# Altium footprint library ZQstencil.PcbLib: 9 footprints
Each footprint in its own frame and in the unit in brackets; x right, y up, seen from the top. Pads: shape width x height; smd on the part's side, far side on the other; paste and mask are expansions set on the pad; w line width, h text height; cw(c..) or ccw(c..) is an arc to the next point about the centre after c.
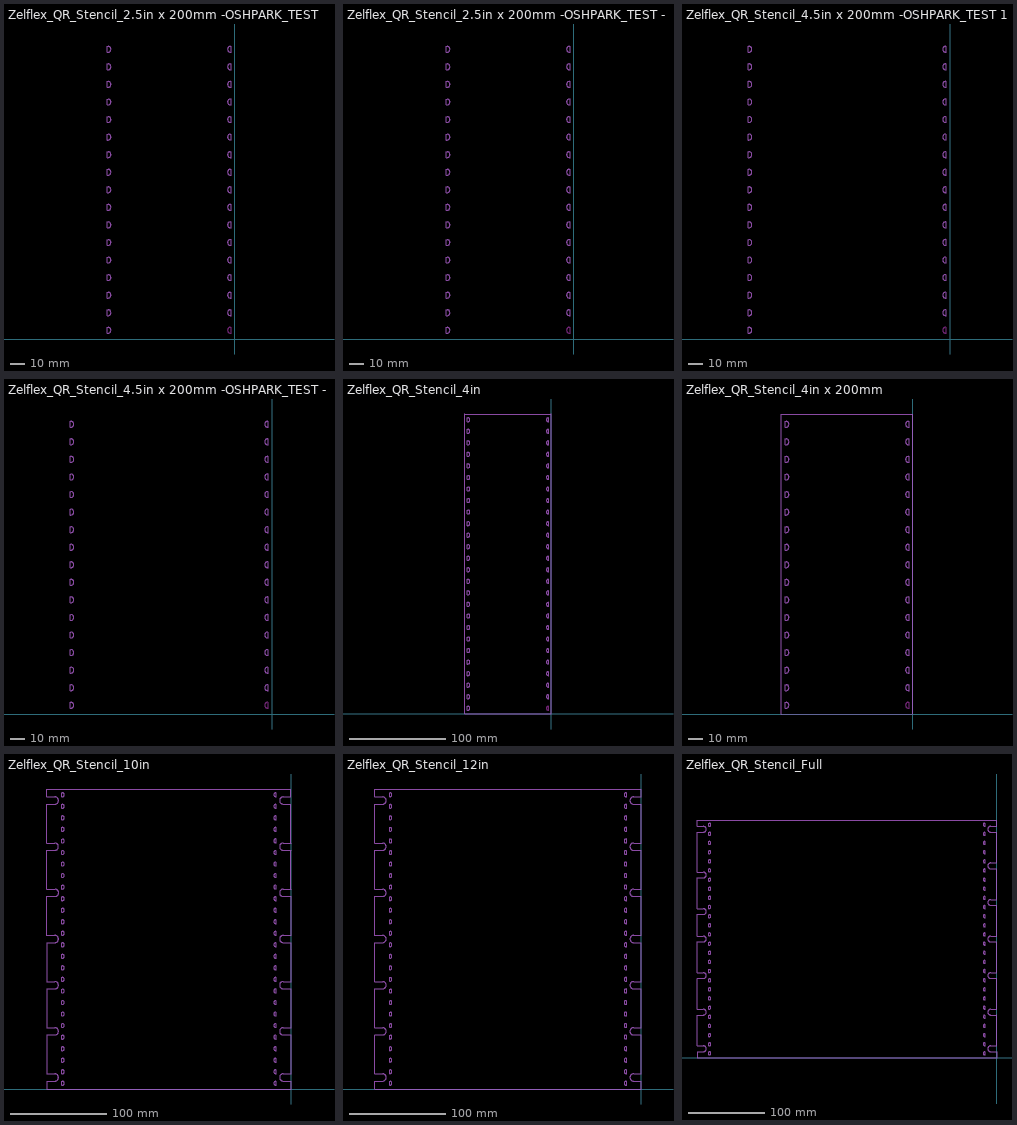
[diagram p0: the footprints below, top view; thin cyan lines are the x and y axes]

## Zelflex_QR_Stencil_2.5in x 200mm -OSHPARK_TEST [mm] "This is a stencil frame in IDLAB.  This has been tested and fits just fine -JDC"
Top Paste:
  drawing of 38 lines, arcs and shapes, not listed
Bottom Paste:
  drawing of 38 lines, arcs and shapes, not listed
Keep-Out Layer:
  lines w0.127: -3.028,4.001 cw(c-3.025,6.002) -3.028,8.002 -2.53,8.002 -2.53,4.001 -3.028,4.001
Mechanical 12:
  lines w0.127: -87.129,3.981 -87.129,7.982 -86.628,7.982 cw(c-86.631,5.981) -86.628,3.981 -87.129,3.981 ; -87.129,15.98 -87.129,19.981 -86.628,19.981 cw(c-86.631,17.98) -86.628,15.98 -87.129,15.98 ; -87.129,27.982 -87.129,31.979 -86.628,31.979 cw(c-86.628,29.981) -86.628,27.982 -87.129,27.982 ; -87.129,39.98 -87.129,43.981 -86.628,43.981 cw(c-86.631,41.981) -86.628,39.98 -87.129,39.98 ; -87.129,51.979 -87.129,55.98 -86.628,55.98 cw(c-86.631,53.98) -86.628,51.979 -87.129,51.979 ; -87.129,63.981 -87.129,67.981 -86.628,67.981 cw(c-86.631,65.981) -86.628,63.981 -87.129,63.981 ; -87.129,75.98 -87.129,79.98 -86.628,79.98 cw(c-86.631,77.98) -86.628,75.98 -87.129,75.98 ; -87.129,87.981 -87.129,91.979 -86.628,91.979 cw(c-86.628,89.98) -86.628,87.981 -87.129,87.981 ; -87.129,99.98 -87.129,103.981 -86.628,103.981 cw(c-86.631,101.981) -86.628,99.98 -87.129,99.98 ; -87.129,111.979 -87.129,115.98 -86.628,115.98 cw(c-86.631,113.98) -86.628,111.979 -87.129,111.979 ; -87.129,123.981 -87.129,127.981 -86.628,127.981 cw(c-86.631,125.981) -86.628,123.981 -87.129,123.981 ; -87.129,135.98 -87.129,139.98 -86.628,139.98 cw(c-86.631,137.98) -86.628,135.98 -87.129,135.98 ; -87.129,147.981 -87.129,151.982 -86.628,151.982 cw(c-86.631,149.982) -86.628,147.981 -87.129,147.981 ; -87.129,159.98 -87.129,163.981 -86.628,163.981 cw(c-86.631,161.981) -86.628,159.98 -87.129,159.98 ; -87.129,171.982 -87.129,175.98 -86.628,175.98 cw(c-86.628,173.981) -86.628,171.982 -87.129,171.982 ; -87.129,183.981 -87.129,187.981 -86.628,187.981 cw(c-86.631,185.981) -86.628,183.981 -87.129,183.981 ; -87.129,195.98 -87.129,199.98 -86.628,199.98 cw(c-86.631,197.98) -86.628,195.98 -87.129,195.98 ; -3.028,16 cw(c-3.025,18.001) -3.028,20.001 -2.53,20.001 -2.53,16 -3.028,16 ; -3.028,28.002 cw(c-3.028,30.001) -3.028,32 -2.53,32 -2.53,28.002 -3.028,28.002 ; -3.028,40.001 cw(c-3.025,42.001) -3.028,44.001 -2.53,44.001 -2.53,40.001 -3.028,40.001 ; -3.028,52 cw(c-3.025,54) -3.028,56 -2.53,56 -2.53,52 -3.028,52 ; -3.028,64.001 cw(c-3.025,66.002) -3.028,68.002 -2.53,68.002 -2.53,64.001 -3.028,64.001 ; -3.028,76 cw(c-3.025,78.001) -3.028,80.001 -2.53,80.001 -2.53,76 -3.028,76 ; -3.028,88.002 cw(c-3.028,90.001) -3.028,92 -2.53,92 -2.53,88.002 -3.028,88.002 ; -3.028,100.001 cw(c-3.025,102.001) -3.028,104.001 -2.53,104.001 -2.53,100.001 -3.028,100.001 ; -3.028,112 cw(c-3.025,114) -3.028,116 -2.53,116 -2.53,112 -3.028,112 ; -3.028,124.001 cw(c-3.025,126.001) -3.028,128.002 -2.53,128.002 -2.53,124.001 -3.028,124.001 ; -3.028,136 cw(c-3.025,138) -3.028,140.001 -2.53,140.001 -2.53,136 -3.028,136 ; -3.028,148.002 cw(c-3.025,150.002) -3.028,152.002 -2.53,152.002 -2.53,148.002 -3.028,148.002 ; -3.028,160.001 cw(c-3.025,162.001) -3.028,164.001 -2.53,164.001 -2.53,160.001 -3.028,160.001 ; -3.028,172.002 cw(c-3.028,174.001) -3.028,176 -2.53,176 -2.53,172.002 -3.028,172.002 ; -3.028,184.001 cw(c-3.025,186.001) -3.028,188.002 -2.53,188.002 -2.53,184.001 -3.028,184.001 ; -3.028,196 cw(c-3.025,198) -3.028,200.001 -2.53,200.001 -2.53,196 -3.028,196
3D body: height 15, standoff -3.51, extent -102.778,-0.017 -79.128,311.94
3D body: height 15, standoff -3.51, extent -10.649,0 13,311.957

## Zelflex_QR_Stencil_2.5in x 200mm -OSHPARK_TEST - duplicate [mm] "This is a stencil frame in IDLAB.  This has been tested and fits just fine -JDC"
Top Paste:
  drawing of 38 lines, arcs and shapes, not listed
Bottom Paste:
  drawing of 38 lines, arcs and shapes, not listed
Keep-Out Layer:
  lines w0.127: -3.028,4.001 cw(c-3.025,6.002) -3.028,8.002 -2.53,8.002 -2.53,4.001 -3.028,4.001
Mechanical 12:
  lines w0.127: -87.129,3.981 -87.129,7.982 -86.628,7.982 cw(c-86.631,5.981) -86.628,3.981 -87.129,3.981 ; -87.129,15.98 -87.129,19.981 -86.628,19.981 cw(c-86.631,17.98) -86.628,15.98 -87.129,15.98 ; -87.129,27.982 -87.129,31.979 -86.628,31.979 cw(c-86.628,29.981) -86.628,27.982 -87.129,27.982 ; -87.129,39.98 -87.129,43.981 -86.628,43.981 cw(c-86.631,41.981) -86.628,39.98 -87.129,39.98 ; -87.129,51.979 -87.129,55.98 -86.628,55.98 cw(c-86.631,53.98) -86.628,51.979 -87.129,51.979 ; -87.129,63.981 -87.129,67.981 -86.628,67.981 cw(c-86.631,65.981) -86.628,63.981 -87.129,63.981 ; -87.129,75.98 -87.129,79.98 -86.628,79.98 cw(c-86.631,77.98) -86.628,75.98 -87.129,75.98 ; -87.129,87.981 -87.129,91.979 -86.628,91.979 cw(c-86.628,89.98) -86.628,87.981 -87.129,87.981 ; -87.129,99.98 -87.129,103.981 -86.628,103.981 cw(c-86.631,101.981) -86.628,99.98 -87.129,99.98 ; -87.129,111.979 -87.129,115.98 -86.628,115.98 cw(c-86.631,113.98) -86.628,111.979 -87.129,111.979 ; -87.129,123.981 -87.129,127.981 -86.628,127.981 cw(c-86.631,125.981) -86.628,123.981 -87.129,123.981 ; -87.129,135.98 -87.129,139.98 -86.628,139.98 cw(c-86.631,137.98) -86.628,135.98 -87.129,135.98 ; -87.129,147.981 -87.129,151.982 -86.628,151.982 cw(c-86.631,149.982) -86.628,147.981 -87.129,147.981 ; -87.129,159.98 -87.129,163.981 -86.628,163.981 cw(c-86.631,161.981) -86.628,159.98 -87.129,159.98 ; -87.129,171.982 -87.129,175.98 -86.628,175.98 cw(c-86.628,173.981) -86.628,171.982 -87.129,171.982 ; -87.129,183.981 -87.129,187.981 -86.628,187.981 cw(c-86.631,185.981) -86.628,183.981 -87.129,183.981 ; -87.129,195.98 -87.129,199.98 -86.628,199.98 cw(c-86.631,197.98) -86.628,195.98 -87.129,195.98 ; -3.028,16 cw(c-3.025,18.001) -3.028,20.001 -2.53,20.001 -2.53,16 -3.028,16 ; -3.028,28.002 cw(c-3.028,30.001) -3.028,32 -2.53,32 -2.53,28.002 -3.028,28.002 ; -3.028,40.001 cw(c-3.025,42.001) -3.028,44.001 -2.53,44.001 -2.53,40.001 -3.028,40.001 ; -3.028,52 cw(c-3.025,54) -3.028,56 -2.53,56 -2.53,52 -3.028,52 ; -3.028,64.001 cw(c-3.025,66.002) -3.028,68.002 -2.53,68.002 -2.53,64.001 -3.028,64.001 ; -3.028,76 cw(c-3.025,78.001) -3.028,80.001 -2.53,80.001 -2.53,76 -3.028,76 ; -3.028,88.002 cw(c-3.028,90.001) -3.028,92 -2.53,92 -2.53,88.002 -3.028,88.002 ; -3.028,100.001 cw(c-3.025,102.001) -3.028,104.001 -2.53,104.001 -2.53,100.001 -3.028,100.001 ; -3.028,112 cw(c-3.025,114) -3.028,116 -2.53,116 -2.53,112 -3.028,112 ; -3.028,124.001 cw(c-3.025,126.001) -3.028,128.002 -2.53,128.002 -2.53,124.001 -3.028,124.001 ; -3.028,136 cw(c-3.025,138) -3.028,140.001 -2.53,140.001 -2.53,136 -3.028,136 ; -3.028,148.002 cw(c-3.025,150.002) -3.028,152.002 -2.53,152.002 -2.53,148.002 -3.028,148.002 ; -3.028,160.001 cw(c-3.025,162.001) -3.028,164.001 -2.53,164.001 -2.53,160.001 -3.028,160.001 ; -3.028,172.002 cw(c-3.028,174.001) -3.028,176 -2.53,176 -2.53,172.002 -3.028,172.002 ; -3.028,184.001 cw(c-3.025,186.001) -3.028,188.002 -2.53,188.002 -2.53,184.001 -3.028,184.001 ; -3.028,196 cw(c-3.025,198) -3.028,200.001 -2.53,200.001 -2.53,196 -3.028,196
3D body: height 15, standoff -3.51, extent -102.778,-0.017 -79.128,311.94
3D body: height 15, standoff -3.51, extent -10.649,0 13,311.957

## Zelflex_QR_Stencil_4.5in x 200mm -OSHPARK_TEST 1 [mm] "This is a stencil frame in IDLAB.  This has been tested and fits just fine -JDC"
Top Paste:
  drawing of 68 lines, arcs and shapes, not listed
Bottom Paste:
  drawing of 68 lines, arcs and shapes, not listed
Keep-Out Layer:
  lines w0.127: -3.028,4.001 cw(c-3.025,6.002) -3.028,8.002 -2.53,8.002 -2.53,4.001 -3.028,4.001
Mechanical 12:
  lines w0.127: -137.929,3.981 -137.929,7.982 -137.428,7.982 cw(c-137.431,5.981) -137.428,3.981 -137.929,3.981 ; -137.929,15.98 -137.929,19.981 -137.428,19.981 cw(c-137.431,17.98) -137.428,15.98 -137.929,15.98 ; -137.929,27.982 -137.929,31.979 -137.428,31.979 cw(c-137.428,29.981) -137.428,27.982 -137.929,27.982 ; -137.929,39.98 -137.929,43.981 -137.428,43.981 cw(c-137.431,41.981) -137.428,39.98 -137.929,39.98 ; -137.929,51.979 -137.929,55.98 -137.428,55.98 cw(c-137.431,53.98) -137.428,51.979 -137.929,51.979 ; -137.929,63.981 -137.929,67.981 -137.428,67.981 cw(c-137.431,65.981) -137.428,63.981 -137.929,63.981 ; -137.929,75.98 -137.929,79.98 -137.428,79.98 cw(c-137.431,77.98) -137.428,75.98 -137.929,75.98 ; -137.929,87.981 -137.929,91.979 -137.428,91.979 cw(c-137.428,89.98) -137.428,87.981 -137.929,87.981 ; -137.929,99.98 -137.929,103.981 -137.428,103.981 cw(c-137.431,101.981) -137.428,99.98 -137.929,99.98 ; -137.929,111.979 -137.929,115.98 -137.428,115.98 cw(c-137.431,113.98) -137.428,111.979 -137.929,111.979 ; -137.929,123.981 -137.929,127.981 -137.428,127.981 cw(c-137.431,125.981) -137.428,123.981 -137.929,123.981 ; -137.929,135.98 -137.929,139.98 -137.428,139.98 cw(c-137.431,137.98) -137.428,135.98 -137.929,135.98 ; -137.929,147.981 -137.929,151.982 -137.428,151.982 cw(c-137.431,149.982) -137.428,147.981 -137.929,147.981 ; -137.929,159.98 -137.929,163.981 -137.428,163.981 cw(c-137.431,161.981) -137.428,159.98 -137.929,159.98 ; -137.929,171.982 -137.929,175.98 -137.428,175.98 cw(c-137.428,173.981) -137.428,171.982 -137.929,171.982 ; -137.929,183.981 -137.929,187.981 -137.428,187.981 cw(c-137.431,185.981) -137.428,183.981 -137.929,183.981 ; -137.929,195.98 -137.929,199.98 -137.428,199.98 cw(c-137.431,197.98) -137.428,195.98 -137.929,195.98 ; -3.028,16 cw(c-3.025,18.001) -3.028,20.001 -2.53,20.001 -2.53,16 -3.028,16 ; -3.028,28.002 cw(c-3.028,30.001) -3.028,32 -2.53,32 -2.53,28.002 -3.028,28.002 ; -3.028,40.001 cw(c-3.025,42.001) -3.028,44.001 -2.53,44.001 -2.53,40.001 -3.028,40.001 ; -3.028,52 cw(c-3.025,54) -3.028,56 -2.53,56 -2.53,52 -3.028,52 ; -3.028,64.001 cw(c-3.025,66.002) -3.028,68.002 -2.53,68.002 -2.53,64.001 -3.028,64.001 ; -3.028,76 cw(c-3.025,78.001) -3.028,80.001 -2.53,80.001 -2.53,76 -3.028,76 ; -3.028,88.002 cw(c-3.028,90.001) -3.028,92 -2.53,92 -2.53,88.002 -3.028,88.002 ; -3.028,100.001 cw(c-3.025,102.001) -3.028,104.001 -2.53,104.001 -2.53,100.001 -3.028,100.001 ; -3.028,112 cw(c-3.025,114) -3.028,116 -2.53,116 -2.53,112 -3.028,112 ; -3.028,124.001 cw(c-3.025,126.001) -3.028,128.002 -2.53,128.002 -2.53,124.001 -3.028,124.001 ; -3.028,136 cw(c-3.025,138) -3.028,140.001 -2.53,140.001 -2.53,136 -3.028,136 ; -3.028,148.002 cw(c-3.025,150.002) -3.028,152.002 -2.53,152.002 -2.53,148.002 -3.028,148.002 ; -3.028,160.001 cw(c-3.025,162.001) -3.028,164.001 -2.53,164.001 -2.53,160.001 -3.028,160.001 ; -3.028,172.002 cw(c-3.028,174.001) -3.028,176 -2.53,176 -2.53,172.002 -3.028,172.002 ; -3.028,184.001 cw(c-3.025,186.001) -3.028,188.002 -2.53,188.002 -2.53,184.001 -3.028,184.001 ; -3.028,196 cw(c-3.025,198) -3.028,200.001 -2.53,200.001 -2.53,196 -3.028,196
3D body: height 15, standoff -3.51, extent -153.578,-0.017 -129.928,311.94
3D body: height 15, standoff -3.51, extent -10.649,0 13,311.957

## Zelflex_QR_Stencil_4.5in x 200mm -OSHPARK_TEST - duplicate [mm] "This is a stencil frame in IDLAB.  This has been tested and fits just fine -JDC"
Top Paste:
  drawing of 38 lines, arcs and shapes, not listed
Bottom Paste:
  drawing of 38 lines, arcs and shapes, not listed
Keep-Out Layer:
  lines w0.127: -3.028,4.001 cw(c-3.025,6.002) -3.028,8.002 -2.53,8.002 -2.53,4.001 -3.028,4.001
Mechanical 12:
  lines w0.127: -137.929,3.981 -137.929,7.982 -137.428,7.982 cw(c-137.431,5.981) -137.428,3.981 -137.929,3.981 ; -137.929,15.98 -137.929,19.981 -137.428,19.981 cw(c-137.431,17.98) -137.428,15.98 -137.929,15.98 ; -137.929,27.982 -137.929,31.979 -137.428,31.979 cw(c-137.428,29.981) -137.428,27.982 -137.929,27.982 ; -137.929,39.98 -137.929,43.981 -137.428,43.981 cw(c-137.431,41.981) -137.428,39.98 -137.929,39.98 ; -137.929,51.979 -137.929,55.98 -137.428,55.98 cw(c-137.431,53.98) -137.428,51.979 -137.929,51.979 ; -137.929,63.981 -137.929,67.981 -137.428,67.981 cw(c-137.431,65.981) -137.428,63.981 -137.929,63.981 ; -137.929,75.98 -137.929,79.98 -137.428,79.98 cw(c-137.431,77.98) -137.428,75.98 -137.929,75.98 ; -137.929,87.981 -137.929,91.979 -137.428,91.979 cw(c-137.428,89.98) -137.428,87.981 -137.929,87.981 ; -137.929,99.98 -137.929,103.981 -137.428,103.981 cw(c-137.431,101.981) -137.428,99.98 -137.929,99.98 ; -137.929,111.979 -137.929,115.98 -137.428,115.98 cw(c-137.431,113.98) -137.428,111.979 -137.929,111.979 ; -137.929,123.981 -137.929,127.981 -137.428,127.981 cw(c-137.431,125.981) -137.428,123.981 -137.929,123.981 ; -137.929,135.98 -137.929,139.98 -137.428,139.98 cw(c-137.431,137.98) -137.428,135.98 -137.929,135.98 ; -137.929,147.981 -137.929,151.982 -137.428,151.982 cw(c-137.431,149.982) -137.428,147.981 -137.929,147.981 ; -137.929,159.98 -137.929,163.981 -137.428,163.981 cw(c-137.431,161.981) -137.428,159.98 -137.929,159.98 ; -137.929,171.982 -137.929,175.98 -137.428,175.98 cw(c-137.428,173.981) -137.428,171.982 -137.929,171.982 ; -137.929,183.981 -137.929,187.981 -137.428,187.981 cw(c-137.431,185.981) -137.428,183.981 -137.929,183.981 ; -137.929,195.98 -137.929,199.98 -137.428,199.98 cw(c-137.431,197.98) -137.428,195.98 -137.929,195.98 ; -3.028,16 cw(c-3.025,18.001) -3.028,20.001 -2.53,20.001 -2.53,16 -3.028,16 ; -3.028,28.002 cw(c-3.028,30.001) -3.028,32 -2.53,32 -2.53,28.002 -3.028,28.002 ; -3.028,40.001 cw(c-3.025,42.001) -3.028,44.001 -2.53,44.001 -2.53,40.001 -3.028,40.001 ; -3.028,52 cw(c-3.025,54) -3.028,56 -2.53,56 -2.53,52 -3.028,52 ; -3.028,64.001 cw(c-3.025,66.002) -3.028,68.002 -2.53,68.002 -2.53,64.001 -3.028,64.001 ; -3.028,76 cw(c-3.025,78.001) -3.028,80.001 -2.53,80.001 -2.53,76 -3.028,76 ; -3.028,88.002 cw(c-3.028,90.001) -3.028,92 -2.53,92 -2.53,88.002 -3.028,88.002 ; -3.028,100.001 cw(c-3.025,102.001) -3.028,104.001 -2.53,104.001 -2.53,100.001 -3.028,100.001 ; -3.028,112 cw(c-3.025,114) -3.028,116 -2.53,116 -2.53,112 -3.028,112 ; -3.028,124.001 cw(c-3.025,126.001) -3.028,128.002 -2.53,128.002 -2.53,124.001 -3.028,124.001 ; -3.028,136 cw(c-3.025,138) -3.028,140.001 -2.53,140.001 -2.53,136 -3.028,136 ; -3.028,148.002 cw(c-3.025,150.002) -3.028,152.002 -2.53,152.002 -2.53,148.002 -3.028,148.002 ; -3.028,160.001 cw(c-3.025,162.001) -3.028,164.001 -2.53,164.001 -2.53,160.001 -3.028,160.001 ; -3.028,172.002 cw(c-3.028,174.001) -3.028,176 -2.53,176 -2.53,172.002 -3.028,172.002 ; -3.028,184.001 cw(c-3.025,186.001) -3.028,188.002 -2.53,188.002 -2.53,184.001 -3.028,184.001 ; -3.028,196 cw(c-3.025,198) -3.028,200.001 -2.53,200.001 -2.53,196 -3.028,196
3D body: height 15, standoff -3.51, extent -153.578,-0.017 -129.928,311.94
3D body: height 15, standoff -3.51, extent -10.649,0 13,311.957

## Zelflex_QR_Stencil_4in [mm] "This is a stencil frame in IDLAB.  This has been tested and fits just fine -JDC"
Top Paste:
  drawing of 52 lines, arcs and shapes, not listed
Bottom Paste:
  drawing of 52 lines, arcs and shapes, not listed
Keep-Out Layer:
  lines w0.127: -3.028,4.001 cw(c-3.025,6.002) -3.028,8.002 -2.53,8.002 -2.53,4.001 -3.028,4.001
Mechanical 12:
  drawing of 208 lines, arcs and shapes, not listed
3D body: height 15, standoff -3.51, extent -102.778,-0.017 -79.128,311.94
3D body: height 15, standoff -3.51, extent -10.649,0 13,311.957

## Zelflex_QR_Stencil_4in x 200mm [mm] "This is a stencil frame in IDLAB.  This has been tested and fits just fine -JDC"
Top Paste:
  drawing of 34 lines, arcs and shapes, not listed
Bottom Paste:
  drawing of 34 lines, arcs and shapes, not listed
Keep-Out Layer:
  lines w0.127: -3.028,4.001 cw(c-3.025,6.002) -3.028,8.002 -2.53,8.002 -2.53,4.001 -3.028,4.001
Mechanical 12:
  lines w0.127: 0,0 0,205 -90,205 -90,0 0,0.008 ; -87.129,3.981 -86.628,3.981 ccw(c-86.631,5.981) -86.628,7.982 -87.129,7.982 -87.129,3.981 ; -87.129,15.98 -86.628,15.98 ccw(c-86.631,17.98) -86.628,19.981 -87.129,19.981 -87.129,15.98 ; -87.129,27.982 -86.628,27.982 ccw(c-86.628,29.981) -86.628,31.979 -87.129,31.979 -87.129,27.982 ; -87.129,39.98 -86.628,39.98 ccw(c-86.631,41.981) -86.628,43.981 -87.129,43.981 -87.129,39.98 ; -87.129,51.979 -86.628,51.979 ccw(c-86.631,53.98) -86.628,55.98 -87.129,55.98 -87.129,51.979 ; -87.129,63.981 -86.628,63.981 ccw(c-86.631,65.981) -86.628,67.981 -87.129,67.981 -87.129,63.981 ; -87.129,75.98 -86.628,75.98 ccw(c-86.631,77.98) -86.628,79.98 -87.129,79.98 -87.129,75.98 ; -87.129,87.981 -86.628,87.981 ccw(c-86.628,89.98) -86.628,91.979 -87.129,91.979 -87.129,87.981 ; -87.129,99.98 -86.628,99.98 ccw(c-86.631,101.981) -86.628,103.981 -87.129,103.981 -87.129,99.98 ; -87.129,111.979 -86.628,111.979 ccw(c-86.631,113.98) -86.628,115.98 -87.129,115.98 -87.129,111.979 ; -87.129,123.981 -86.628,123.981 ccw(c-86.631,125.981) -86.628,127.981 -87.129,127.981 -87.129,123.981 ; -87.129,135.98 -86.628,135.98 ccw(c-86.631,137.98) -86.628,139.98 -87.129,139.98 -87.129,135.98 ; -87.129,147.981 -86.628,147.981 ccw(c-86.631,149.982) -86.628,151.982 -87.129,151.982 -87.129,147.981 ; -87.129,159.98 -86.628,159.98 ccw(c-86.631,161.981) -86.628,163.981 -87.129,163.981 -87.129,159.98 ; -87.129,171.982 -86.628,171.982 ccw(c-86.628,173.981) -86.628,175.98 -87.129,175.98 -87.129,171.982 ; -87.129,183.981 -86.628,183.981 ccw(c-86.631,185.981) -86.628,187.981 -87.129,187.981 -87.129,183.981 ; -87.129,195.98 -86.628,195.98 ccw(c-86.631,197.98) -86.628,199.98 -87.129,199.98 -87.129,195.98 ; -3.028,16 cw(c-3.025,18.001) -3.028,20.001 -2.53,20.001 -2.53,16 -3.028,16 ; -3.028,28.002 cw(c-3.028,30.001) -3.028,32 -2.53,32 -2.53,28.002 -3.028,28.002 ; -3.028,40.001 cw(c-3.025,42.001) -3.028,44.001 -2.53,44.001 -2.53,40.001 -3.028,40.001 ; -3.028,52 cw(c-3.025,54) -3.028,56 -2.53,56 -2.53,52 -3.028,52 ; -3.028,64.001 cw(c-3.025,66.002) -3.028,68.002 -2.53,68.002 -2.53,64.001 -3.028,64.001 ; -3.028,76 cw(c-3.025,78.001) -3.028,80.001 -2.53,80.001 -2.53,76 -3.028,76 ; -3.028,88.002 cw(c-3.028,90.001) -3.028,92 -2.53,92 -2.53,88.002 -3.028,88.002 ; -3.028,100.001 cw(c-3.025,102.001) -3.028,104.001 -2.53,104.001 -2.53,100.001 -3.028,100.001 ; -3.028,112 cw(c-3.025,114) -3.028,116 -2.53,116 -2.53,112 -3.028,112 ; -3.028,124.001 cw(c-3.025,126.001) -3.028,128.002 -2.53,128.002 -2.53,124.001 -3.028,124.001 ; -3.028,136 cw(c-3.025,138) -3.028,140.001 -2.53,140.001 -2.53,136 -3.028,136 ; -3.028,148.002 cw(c-3.025,150.002) -3.028,152.002 -2.53,152.002 -2.53,148.002 -3.028,148.002 ; -3.028,160.001 cw(c-3.025,162.001) -3.028,164.001 -2.53,164.001 -2.53,160.001 -3.028,160.001 ; -3.028,172.002 cw(c-3.028,174.001) -3.028,176 -2.53,176 -2.53,172.002 -3.028,172.002 ; -3.028,184.001 cw(c-3.025,186.001) -3.028,188.002 -2.53,188.002 -2.53,184.001 -3.028,184.001 ; -3.028,196 cw(c-3.025,198) -3.028,200.001 -2.53,200.001 -2.53,196 -3.028,196
3D body: height 15, standoff -3.51, extent -10.649,0 13,311.957
3D body: height 15, standoff -3.51, extent -102.778,-0.017 -79.128,311.94

## Zelflex_QR_Stencil_10in [mm] "This is a stencil frame in IDLAB.  This has been tested and fits just fine -JDC"
Mechanical 12:
  drawing of 271 lines, arcs and shapes, not listed
3D body: height 15, standoff -3.51, extent -254.028,-0.017 -230.378,311.94
3D body: height 15, standoff -3.51, extent -23.649,0 0,311.957

## Zelflex_QR_Stencil_12in [mm] "This is a stencil frame in IDLAB.  This has been tested and fits just fine.  Correction were made after there was a issue with one of pin-JDC"
Mechanical 12:
  drawing of 270 lines, arcs and shapes, not listed
3D body: height 15, standoff -3.51, extent -23.649,0 0,311.957
3D body: height 15, standoff -3.51, extent -277.649,0 -254,311.957

## Zelflex_QR_Stencil_Full [mm] "This is a stencil frame in IDLAB.  This has been tested and fits just fine -JDC"
Mechanical 12:
  drawing of 271 lines, arcs and shapes, not listed
3D body: height 15, standoff -3.51, extent -393.652,0 -370.002,311.957
3D body: height 15, standoff -3.51, extent -23.649,0 0,311.957